# EAGLE library part ACPL-244 (library acpl-244)
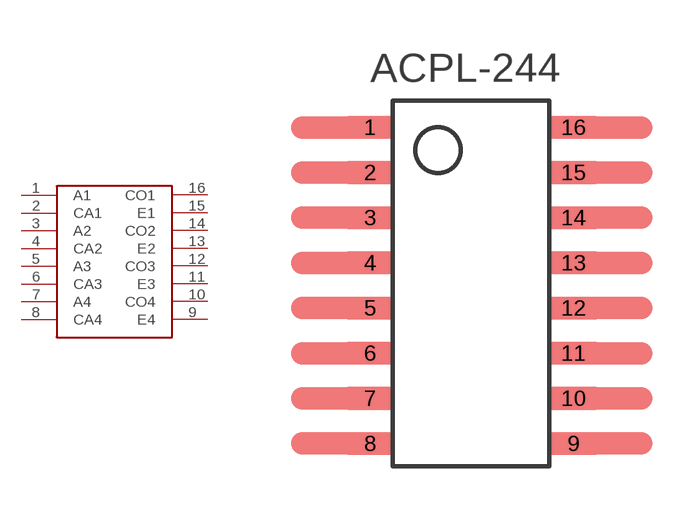
[diagram p0: symbol with the pads of ACPL-244; footprint ACPL-244]

Designator prefix -

## ACPL-244  [ACPL-244]
1  A1
2  CA1
3  A2
4  CA2
5  A3
6  CA3
7  A4
8  CA4
9  E4
10  CO4
11  E3
12  CO3
13  E2
14  CO2
15  E1
16  CO1

## Footprint ACPL-244 (pad centres in mm)
smd 1.27 x 0.635: 1 -0.635,9.525; 2 -0.635,8.255; 3 -0.635,6.985; 4 -0.635,5.715; 5 -0.635,4.445; 6 -0.635,3.175; 7 -0.635,1.905; 8 -0.635,0.635; 9 5.08,0.635; 10 5.08,1.905; 11 5.08,3.175; 12 5.08,4.445; 13 5.08,5.715; 14 5.08,6.985; 15 5.08,8.255; 16 5.08,9.525